# Altium integrated library TI Logic Memory Mapper.IntLib: 1 symbol
Pins are listed as number, name and electrical type; pins without a type are passive.

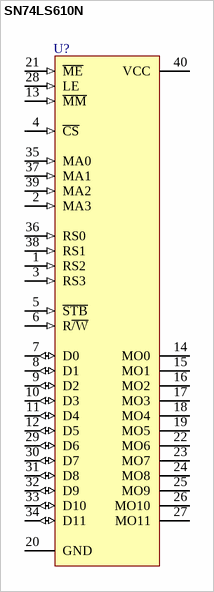
[diagram p0: symbol SN74LS610N]

## SN74LS610N
designator U?
Memory Mapper; Published: 8-Jun-2000; LatestRevisionDate: 04-Mar-2005; LatestRevisionNote: Stylized 3D Model Added.; DatasheetVersion: Mar-1988; PackageVersion: Oct-1994; PackageReference: N040C; Publisher: Altium Limited; PackageDescription: DIP; 40 Leads; Row Spacing 15.24 mm; Pitch 2.54 mm; Code_JEDEC: MS-011-AC; ComponentLink1Description: Manufacturer Link; ComponentLink1URL: http://www.ti.com/
footprint N040C (DIP; 40 Leads; Row Spacing 15.24 mm; Pitch 2.54 mm)
3D model N040 (DIP; 40 Leads; Row Spacing 15.24 mm; Pitch 2.54 mm)
signal-integrity model SN74LS610N
pins: 1 RS2 (in), 2 MA3 (in), 3 RS3 (in), 4 ~{CS} (in), 5 ~{STB} (in), 6 R~{/W} (in), 7 D0 (io), 8 D1 (io), 9 D2 (io), 10 D3 (io), 11 D4 (io), 12 D5 (io), 13 ~{MM} (in), 14 MO0 (hiz), 15 MO1 (hiz), 16 MO2 (hiz), 17 MO3 (hiz), 18 MO4 (hiz), 19 MO5 (hiz), 20 GND (power), 21 ~{ME} (in), 22 MO6 (hiz), 23 MO7 (hiz), 24 MO8 (hiz), 25 MO9 (hiz), 26 MO10 (hiz), 27 MO11 (hiz), 28 LE (in), 29 D6 (io), 30 D7 (io), 31 D8 (io), 32 D9 (io), 33 D10 (io), 34 D11 (io), 35 MA0 (in), 36 RS0 (in), 37 MA1 (in), 38 RS1 (in), 39 MA2 (in), 40 VCC (power)